# EAGLE library part DRV8811_PWP_28 (library TI-drv8313)
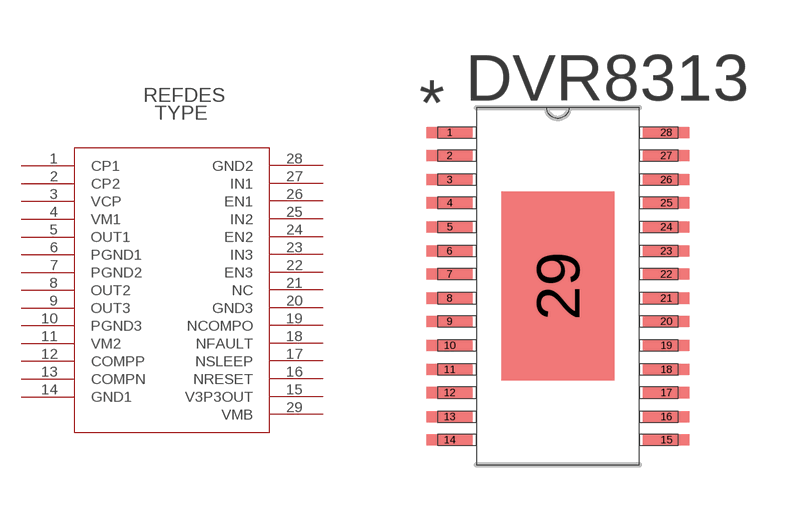
[diagram p0: symbol with the pads of PWP28_5P18X3P1; footprint PWP28_5P18X3P1]

Designator prefix U

## DRV8811_PWP_28  [PWP28_5P18X3P1]
1  CP1  pas
2  CP2  pas
3  VCP  pas
4  VM1  pas
5  OUT1  pas
6  PGND1  pas
7  PGND2  pas
8  OUT2  pas
9  OUT3  pas
10  PGND3  pas
11  VM2  pas
12  COMPP  pas
13  COMPN  pas
14  GND1  pas
15  V3P3OUT  pas
16  NRESET  pas
17  NSLEEP  pas
18  NFAULT  pas
19  NCOMPO  pas
20  GND3  pas
21  NC  pas
22  EN3  pas
23  IN3  pas
24  EN2  pas
25  IN2  pas
26  EN1  pas
27  IN1  pas
28  GND2  pas
29  VMB  pas

## Footprint PWP28_5P18X3P1 (pad centres in mm)
smd 1.27 x 0.305: 1 -2.972,4.216; 2 -2.972,3.581; 3 -2.972,2.921; 4 -2.972,2.286; 5 -2.972,1.626; 6 -2.972,0.965; 7 -2.972,0.33; 8 -2.972,-0.33; 9 -2.972,-0.965; 10 -2.972,-1.626; 11 -2.972,-2.286; 12 -2.972,-2.921; 13 -2.972,-3.581; 14 -2.972,-4.216; 15 2.972,-4.216; 16 2.972,-3.581; 17 2.972,-2.921; 18 2.972,-2.286; 19 2.972,-1.626; 20 2.972,-0.965; 21 2.972,-0.33; 22 2.972,0.33; 23 2.972,0.965; 24 2.972,1.626; 25 2.972,2.286; 26 2.972,2.921; 27 2.972,3.581; 28 2.972,4.216
smd 3.099 x 5.182: 29 0,0